# Altium schematic symbol library 93AA66C-ISN.SchLib: 1 symbol
Pins are listed as number, name and electrical type; pins without a type are passive.

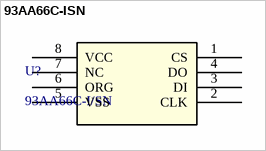
[diagram p0: symbol 93AA66C-ISN]

## 93AA66C-ISN
designator U?, comment 93AA66C-I/SN
IC EEPROM 4KBIT MICROWIRE 8SOIC; Manufacturer_Name: Microchip; Copyright: Copyright (C) 2026 Ultra Librarian. All rights reserved.; Manufacturer_Part_Number: 93AA66C-I/SN; RefDes: RefDes; Type: Type
footprint SOIC8-N_MC_MCH
pins: 1 CS, 2 CLK, 3 DI, 4 DO, 5 VSS, 6 ORG, 7 NC, 8 VCC